# EAGLE library part M4-96-T100 (library amd-mach)
AMD MACH SERIES
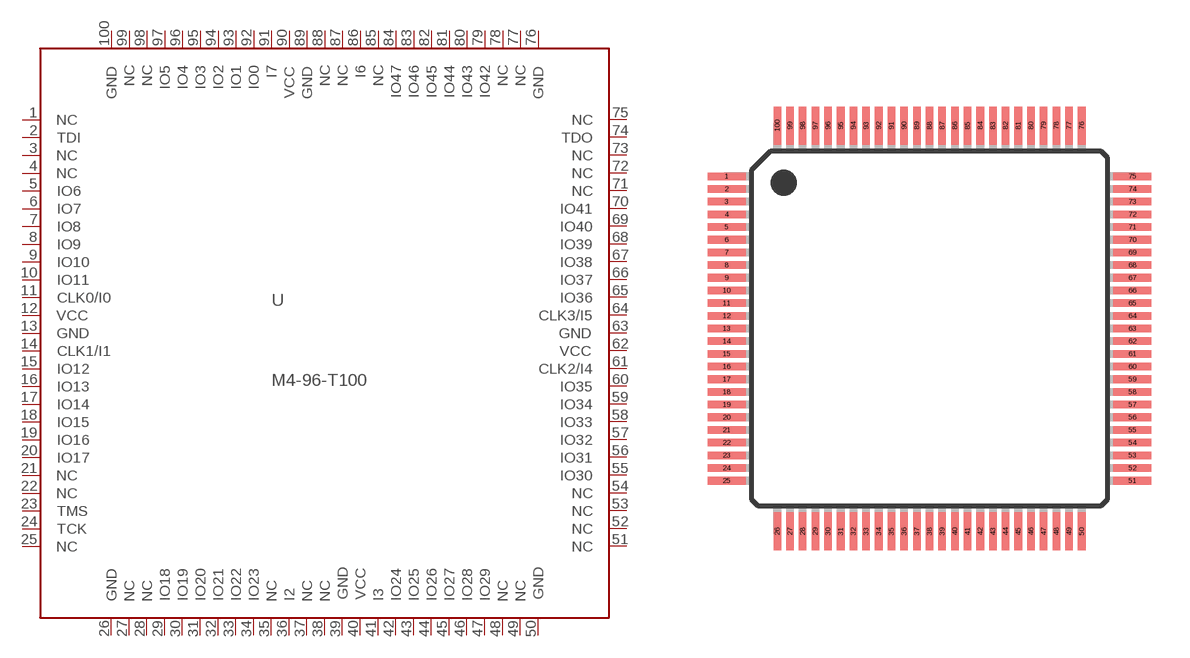
[diagram p2: symbol with the pads of TQFP100; footprint TQFP100]

Designator prefix U

## M4-96-T100  [TQFP100]
1  NC1  nc
2  TDI  in
3  NC2  nc
4  NC3  nc
5  IO6
6  IO7
7  IO8
8  IO9
9  IO10
10  IO11
11  CLK0/I0  in
12  VCC  pwr
13  GND  pwr
14  CLK1/I1  in
15  IO12
16  IO13
17  IO14
18  IO15
19  IO16
20  IO17
21  NC4  nc
22  NC5  nc
23  TMS  in
24  TCK  in
25  NC6  nc
26  GND  pwr
27  NC7  nc
28  NC8  nc
29  IO18
30  IO19
31  IO20
32  IO21
33  IO22
34  IO23
35  NC9  nc
36  I2  in
37  NC10  nc
38  NC11  nc
39  GND  pwr
40  VCC  pwr
41  I3  in
42  IO24
43  IO25
44  IO26
45  IO27
46  IO28
47  IO29
48  NC12  nc
49  NC13  nc
50  GND  pwr
51  NC14  nc
52  NC15  nc
53  NC18  nc
54  NC19  nc
55  IO30
56  IO31
57  IO32
58  IO33
59  IO34
60  IO35
61  CLK2/I4  in
62  VCC  pwr
63  GND  pwr
64  CLK3/I5  in
65  IO36
66  IO37
67  IO38
68  IO39
69  IO40
70  IO41
71  NC20  nc
72  NC21  nc
73  NC22  nc
74  TDO  out
75  NC23  nc
76  GND  pwr
77  NC24  nc
78  NC25  nc
79  IO42
80  IO43
81  IO44
82  IO45
83  IO46
84  IO47
85  NC26  nc
86  I6  in
87  NC27  nc
88  NC28  nc
89  GND  pwr
90  VCC  pwr
91  I7  in
92  IO0
93  IO1
94  IO2
95  IO3
96  IO4
97  IO5
98  NC29  nc
99  NC30  nc
100  GND  pwr

## Footprint TQFP100 (pad centres in mm)
Plastic Thin Quad Flat Pack
smd 1.5 x 0.3: 1 -8,6; 2 -8,5.5; 3 -8,5; 4 -8,4.5; 5 -8,4; 6 -8,3.5; 7 -8,3; 8 -8,2.5; 9 -8,2; 10 -8,1.5; 11 -8,1; 12 -8,0.5; 13 -8,0; 14 -8,-0.5; 15 -8,-1; 16 -8,-1.5; 17 -8,-2; 18 -8,-2.5; 19 -8,-3; 20 -8,-3.5; 21 -8,-4; 22 -8,-4.5; 23 -8,-5; 24 -8,-5.5; 25 -8,-6; 51 8,-6; 52 8,-5.5; 53 8,-5; 54 8,-4.5; 55 8,-4; 56 8,-3.5; 57 8,-3; 58 8,-2.5; 59 8,-2; 60 8,-1.5; 61 8,-1; 62 8,-0.5; 63 8,0; 64 8,0.5; 65 8,1; 66 8,1.5; 67 8,2; 68 8,2.5; 69 8,3; 70 8,3.5; 71 8,4; 72 8,4.5; 73 8,5; 74 8,5.5; 75 8,6
smd 0.3 x 1.5: 26 -6,-8; 27 -5.5,-8; 28 -5,-8; 29 -4.5,-8; 30 -4,-8; 31 -3.5,-8; 32 -3,-8; 33 -2.5,-8; 34 -2,-8; 35 -1.5,-8; 36 -1,-8; 37 -0.5,-8; 38 0,-8; 39 0.5,-8; 40 1,-8; 41 1.5,-8; 42 2,-8; 43 2.5,-8; 44 3,-8; 45 3.5,-8; 46 4,-8; 47 4.5,-8; 48 5,-8; 49 5.5,-8; 50 6,-8; 76 6,8; 77 5.5,8; 78 5,8; 79 4.5,8; 80 4,8; 81 3.5,8; 82 3,8; 83 2.5,8; 84 2,8; 85 1.5,8; 86 1,8; 87 0.5,8; 88 0,8; 89 -0.5,8; 90 -1,8; 91 -1.5,8; 92 -2,8; 93 -2.5,8; 94 -3,8; 95 -3.5,8; 96 -4,8; 97 -4.5,8; 98 -5,8; 99 -5.5,8; 100 -6,8